# Altium schematic symbol library Powerswitch.SchLib: 30 symbols
Pins are listed as number, name and electrical type; pins without a type are passive.

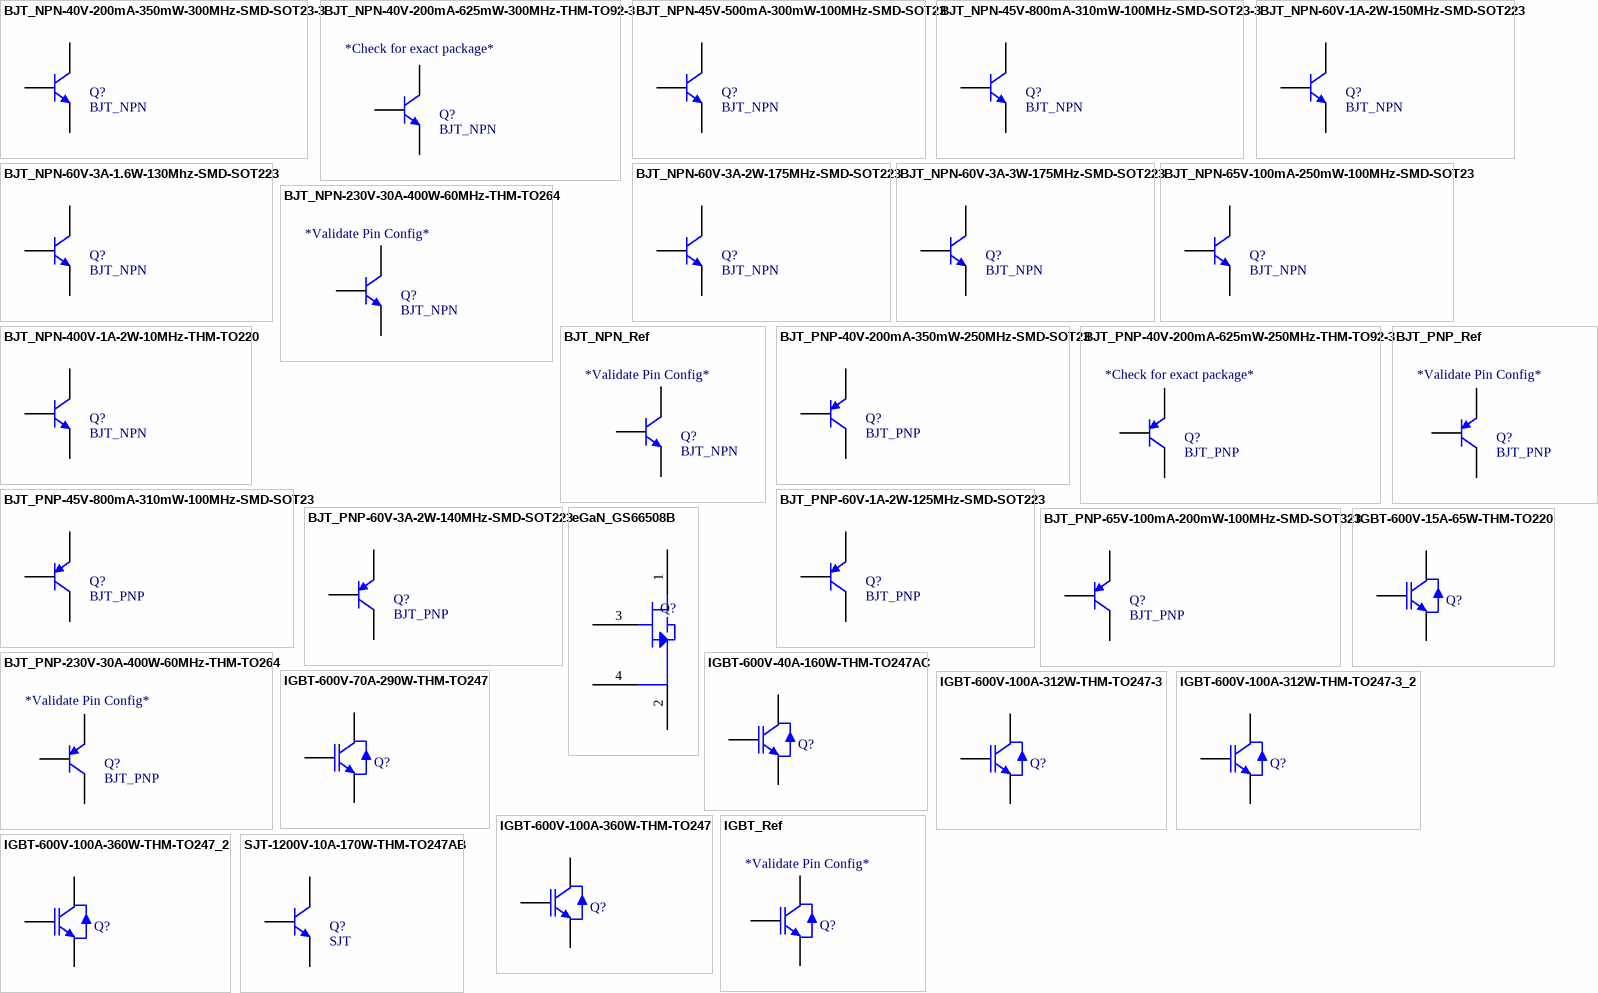
[diagram p0: symbols BJT_NPN-40V-200mA-350mW-300MHz-SMD-SOT23-3 to SJT-1200V-10A-170W-THM-TO247AB]

## BJT_NPN-40V-200mA-350mW-300MHz-SMD-SOT23-3
designator Q?, comment BJT_NPN
TRANS NPN 40V 0.2A SOT-23; Manufacturer: ON Semiconductor; ManufacturerReference: MMBT3904; InventoryNumber: IC028; CurrentRating: 200mA; Power: 350mW; Frequency: 300MHz; Distributor: Digikey; DistributorReference: MMBT3904FSCT-ND; Package: SOT23-3/SC-59/TO236-3; VoltageRating: 40V; Type: NPN
footprint SOT23-3    ON Semiconductor (SOT23, 3-Leads, Body 2.92x2.55mm, Pitch 0.95mm, IPC High Density)
pins: 1 B, 2 E, 3 C

## BJT_NPN-40V-200mA-625mW-300MHz-THM-TO92-3
designator Q?, comment BJT_NPN
TRANS NPN 40V 0.2A TO-92; Manufacturer: ON Semiconductor; ManufacturerReference: 2N3904TFR; InventoryNumber: IC029; CurrentRating: 200mA; Power: 625mW; Frequency: 300MHz; Distributor: Digikey; DistributorReference: 2N3904D26ZCT-ND; Package: TO92-3/TO226-3; VoltageRating: 40V; Type: NPN
footprint TO92 TAPED BULK STRAIGHT LEAD
footprint TO92 TAPED BENT LEAD
pins: 1 E, 2 B, 3 C
text: *Check for exact package*

## BJT_NPN-45V-500mA-300mW-100MHz-SMD-SOT23
designator Q?, comment BJT_NPN
TRANS NPN 45V 0.5A SOT23; Manufacturer: ON Semiconductor; ManufacturerReference: BC817-25LT1G; InventoryNumber: IC030; CurrentRating: 500mA; Power: 300mW; Frequency: 100MHz; Distributor: Digikey; DistributorReference: BC817-25LT1GOSCT-ND; Package: SOT23-3/TO236-3/SC59; VoltageRating: 45V; Type: NPN
footprint SOT23-3    ON Semiconductor (SOT23, 3-Leads, Body 2.92x2.55mm, Pitch 0.95mm, IPC High Density)
pins: 1 B, 2 E, 3 C

## BJT_NPN-45V-800mA-310mW-100MHz-SMD-SOT23-3
designator Q?, comment BJT_NPN
TRANS NPN 45V 0.8A SOT-23; Manufacturer: ON Semiconductor; ManufacturerReference: BC81740MTF; InventoryNumber: IC033; CurrentRating: 800mA; Power: 310mW; Frequency: 100MHz; Distributor: Digikey; DistributorReference: BC81740MTFCT-ND; Package: SOT23-3/TO236-3/SC59; VoltageRating: 45V; Type: NPN
footprint SOT23-3    ON Semiconductor (SOT23, 3-Leads, Body 2.92x2.55mm, Pitch 0.95mm, IPC High Density)
pins: 1 B, 2 E, 3 C

## BJT_NPN-60V-1A-2W-150MHz-SMD-SOT223
designator Q?, comment BJT_NPN
BCP55TA; Manufacturer: Diodes Incorporated; InventoryNumber: IC031; VoltageRating: 60V; CurrentRating: 1A; Type: NPN; Power: 2W; Frequency: 150MHz; Distributor: Digikey; DistributorReference: BCP55CT-ND; ManufacturerReference: BCP55TA; Package: SOT223/TO261-4
footprint SOT223-4 (SOT223, 4-Leads, Body 6.50x7.00mm (avg), Pitch 2.30mm, IPC High Density)
pins: 1 B, 2 C, 3 E

## BJT_NPN-60V-3A-1.6W-130Mhz-SMD-SOT223
designator Q?, comment BJT_NPN
TRANS NPN 60V 3A SOT-223; Manufacturer: STMicroelectronics; ManufacturerReference: 2STN1360; InventoryNumber: IC032; Power: 1.6W; Frequency: 130MHz; Distributor: Digikey; DistributorReference: 497-5212-1-ND; Package: SOT223/TO261-4; VoltageRating: 60V; CurrentRating: 3A; Type: NPN
footprint SOT223-4 (SOT223, 4-Leads, Body 6.50x7.00mm (avg), Pitch 2.30mm, IPC High Density)
pins: 1 B, 2 C, 3 E

## BJT_NPN-60V-3A-2W-175MHz-SMD-SOT223
designator Q?, comment BJT_NPN
TRANS NPN 60V 3A SOT-223; Manufacturer: Diodes Incorporated; ManufacturerReference: FZT651TA; InventoryNumber: IC132; Power: 2W; Frequency: 175MHz; Distributor: Digikey; DistributorReference: FZT651CT-ND; Package: SOT223/TO261-4; VoltageRating: 60V; CurrentRating: 3A; Type: NPN
footprint SOT223-4 (SOT223, 4-Leads, Body 6.50x7.00mm (avg), Pitch 2.30mm, IPC High Density)
pins: 1 B, 2 C, 3 E

## BJT_NPN-60V-3A-3W-175MHz-SMD-SOT223
designator Q?, comment BJT_NPN
TRANS NPN 60V 3A SOT-223; Manufacturer: Diodes Incorporated; ManufacturerReference: FZT651QTA; InventoryNumber: IC139; Power: 3W; Frequency: 175MHz; Distributor: Digikey; DistributorReference: FZT651QTADICT-ND; Package: SOT223/TO261-4; VoltageRating: 60V; CurrentRating: 3A; Type: NPN
footprint SOT223-4 (SOT223, 4-Leads, Body 6.50x7.00mm (avg), Pitch 2.30mm, IPC High Density)
pins: 1 B, 2 C, 3 E

## BJT_NPN-65V-100mA-250mW-100MHz-SMD-SOT23
designator Q?, comment BJT_NPN
TRANS NPN 65V 0.1A SOT23; Manufacturer: Nexperia USA Inc.; ManufacturerReference: BC846A,215; InventoryNumber: IC034; CurrentRating: 100mA; Power: 250mW; Frequency: 100MHz; Distributor: Digikey; DistributorReference: 1727-4239-1-ND; Package: SOT23/TO236-3; VoltageRating: 65V; Type: NPN
footprint SOT23-3    ON Semiconductor (SOT23, 3-Leads, Body 2.92x2.55mm, Pitch 0.95mm, IPC High Density)
pins: 1 B, 2 E, 3 C

## BJT_NPN-230V-30A-400W-60MHz-THM-TO264
designator Q?, comment BJT_NPN
TRANS NPN 230V 30A TO264; Manufacturer: Semelab / TT Electronics; ManufacturerReference: MAG6332W; InventoryNumber: IC228; Power: 400W; Frequency: 60MHz; Distributor: *; DistributorReference: *; Package: TO264; VoltageRating: 230V; CurrentRating: 30A; Type: NPN
pins: 1 E, 2 B, 3 C
text: *Validate Pin Config*

## BJT_NPN-400V-1A-2W-10MHz-THM-TO220
designator Q?, comment BJT_NPN
TRANS NPN 400V 1A TO220AB; Manufacturer: ON Semiconductor; ManufacturerReference: TIP50G; InventoryNumber: IC027; Power: 2W; Frequency: 10MHz; Distributor: Digikey; DistributorReference: TIP50GOS-ND; Package: TO220-3/AB; VoltageRating: 400V; CurrentRating: 1A; Type: NPN
footprint TO-220-3/TO-220AB/TO-220-3 Full Pack
pins: 1 B, 2 C, 3 E

## BJT_NPN_Ref
designator Q?, comment BJT_NPN
NPN General Purpose Amplifier; Distributor: Digikey; DistributorReference: *; Manufacturer: *; ManufacturerReference: *; Package: *; InventoryNumber: *; VoltageRating: *; CurrentRating: *; Type: NPN; Power: *; Frequency: *
pins: 1 E, 2 B, 3 C
text: *Validate Pin Config*

## BJT_PNP-40V-200mA-350mW-250MHz-SMD-SOT23
designator Q?, comment BJT_PNP
TRANS PNP 40V 0.2A SOT-23; Manufacturer: ON Semiconductor; ManufacturerReference: MMBT3906; InventoryNumber: IC036; CurrentRating: 200mA; Power: 350mW; Frequency: 250MHz; Distributor: Digikey; DistributorReference: MMBT3906FSCT-ND; Package: SOT23/TO236-3; VoltageRating: 40V; Type: PNP
footprint SOT23-3    ON Semiconductor (SOT23, 3-Leads, Body 2.92x2.55mm, Pitch 0.95mm, IPC High Density)
pins: 1 B, 2 E, 3 C

## BJT_PNP-40V-200mA-625mW-250MHz-THM-TO92-3
designator Q?, comment BJT_PNP
TRANS PNP 40V 0.2A TO-92; Manufacturer: ON Semiconductor; ManufacturerReference: 2N3906TFR; InventoryNumber: IC037; CurrentRating: 200mA; Power: 625mW; Frequency: 250MHz; Distributor: Digikey; DistributorReference: 2N3906D26ZCT-ND; Package: TO92-3/TO26-3; VoltageRating: 40V; Type: PNP
footprint TO92 TAPED BENT LEAD
footprint TO92 TAPED BULK STRAIGHT LEAD
pins: 1 E, 2 B, 3 C
text: *Check for exact package*

## BJT_PNP-45V-800mA-310mW-100MHz-SMD-SOT23
designator Q?, comment BJT_PNP
TRANS PNP 45V 0.8A SOT23; Manufacturer: ON Semiconductor; ManufacturerReference: BC80725MTF; InventoryNumber: IC035; CurrentRating: 800mA; Power: 310mW; Frequency: 100MHz; Distributor: Digikey; DistributorReference: BC80725MTFTR-ND; Package: SOT23/TO236-3; VoltageRating: 45V; Type: PNP
footprint SOT23-3    ON Semiconductor (SOT23, 3-Leads, Body 2.92x2.55mm, Pitch 0.95mm, IPC High Density)
pins: 1 B, 2 E, 3 C

## BJT_PNP-60V-1A-2W-125MHz-SMD-SOT223
designator Q?, comment BJT_PNP
TRANS PNP 60V 1A SOT223-4; Manufacturer: Diodes Incorporated; ManufacturerReference: BCP52TA; InventoryNumber: IC039; Power: 2W; Frequency: 125MHz; Distributor: Digikey; DistributorReference: BCP52CT-ND; Package: SOT223/TO261-4; CurrentRating: 1A; VoltageRating: 60V; Type: PNP
footprint SOT223-4 (SOT223, 4-Leads, Body 6.50x7.00mm (avg), Pitch 2.30mm, IPC High Density)
pins: 1 B, 2 C, 3 E

## BJT_PNP-60V-3A-2W-140MHz-SMD-SOT223
designator Q?, comment BJT_PNP
TRANS PNP 60V 3A SOT-223; Manufacturer: Diodes Incorporated; ManufacturerReference: FZT751TA; InventoryNumber: IC226; Power: 2W; Frequency: 140MHz; Distributor: Digikey; DistributorReference: FZT751CT-ND; Package: SOT223/TO261-4; CurrentRating: 3A; VoltageRating: 60V; Type: PNP
footprint SOT223-4 (SOT223, 4-Leads, Body 6.50x7.00mm (avg), Pitch 2.30mm, IPC High Density)
pins: 1 B, 2 C, 3 E

## BJT_PNP-65V-100mA-200mW-100MHz-SMD-SOT323
designator Q?, comment BJT_PNP
TRANS PNP 65V 0.1A SOT323; Manufacturer: Nexperia USA Inc.; ManufacturerReference: BC856BW,115; InventoryNumber: IC038; CurrentRating: 100mA; Power: 200mW; Frequency: 100MHz; Distributor: Digikey; DistributorReference: 1727-4863-1-ND; Package: SOT323/SC70; VoltageRating: 65V; Type: PNP
footprint SOT323-3/SC70 Nexperia USA Inc. (SOT23, 3-Leads, Body 2.00x2.10mm, Pitch 0.65mm, IPC High Density)
pins: 1 B, 2 E, 3 C

## BJT_PNP-230V-30A-400W-60MHz-THM-TO264
designator Q?, comment BJT_PNP
TRANS PNP 230V 30A 400W TO264; Manufacturer: SEMELAB; ManufacturerReference: MAG9412W; InventoryNumber: IC227; Frequency: 60MHz; Distributor: *; DistributorReference: *; Package: TO264; CurrentRating: 30A; VoltageRating: 230V; Type: PNP; Power: 400W
pins: 1 E, 2 B, 3 C
text: *Validate Pin Config*

## BJT_PNP_Ref
designator Q?, comment BJT_PNP
PNP General Purpose Amplifier; Distributor: Digikey; DistributorReference: *; Manufacturer: *; ManufacturerReference: *; InventoryNumber: *; Package: *; CurrentRating: *; VoltageRating: *; Type: PNP; Power: *; Frequency: *
pins: 1 E, 2 B, 3 C
text: *Validate Pin Config*

## eGaN_GS66508B
designator Q?  (value not drawn)
Bottom-side cooled (650V, 30A) E-mode GaN transistor; ManufacturerName: GaN Systems; ManufacturerReference: GS66508B-E01-MR; DistributorName: Mouser - Canada; DistributorReference: 499-GS66508B-E01-MR; PackageReference: *
footprint GS66508B_03R_02HH (Bottom-side cooled (650 V, 30A) E-mode GaN transistor)
pins: 1 D, 2 S, 3 G, 4 SS

## IGBT-600V-15A-65W-THM-TO220
designator Q?, comment IGBT  (value not drawn)
IGBT, 600V Voltage Rating, 15A Current Rating, 65W Power Rating, TO220 Package; Manufacturer: STMicroelectronics; ManufacturerReference: STGP8NC60KD; InventoryNumber: IC041; Distributor: Digikey; DistributorReference: 497-7481-5-ND; Package: TO220-3/AB; CurrrentRating: 15A; VoltageRating: 600V; Power: 65W
footprint TO-220-3/TO-220AB/TO-220-3 Full Pack
pins: 1 G, 2 C, 3 E

## IGBT-600V-40A-160W-THM-TO247AC
designator Q?, comment IGBT  (value not drawn)
IGBT, 600V Voltage Rating, 40A Current Rating, 160W Power Rating, TO247AC Package; Manufacturer: Infineon Technologies; ManufacturerReference: IRG4PC40UD-EPBF; InventoryNumber: IC044; Distributor: Digikey; DistributorReference: IRG4PC40UD-EPBF-ND; Package: TO247-3/AC; CurrrentRating: 40A; VoltageRating: 600V; Power: 160W
footprint TO-247-3/PLUS247
pins: 1 G, 2 C, 3 E

## IGBT-600V-70A-290W-THM-TO247
designator Q?, comment IGBT  (value not drawn)
IGBT, 600V Voltage Rating, 70A Current Rating, 290W Power Rating, TO247-3 Package; Manufacturer: ON Semiconductor; ManufacturerReference: HGTG20N60A4; InventoryNumber: IC043; Distributor: Digikey; DistributorReference: HGTG20N60A4-ND; Package: TO247-3; CurrrentRating: 70A; VoltageRating: 600V; Power: 290W
footprint TO-247-3/PLUS247
pins: 1 G, 2 C, 3 E

## IGBT-600V-100A-312W-THM-TO247-3
designator Q?, comment IGBT  (value not drawn)
IGBT, 600V Voltage Rating, 100A Current Rating, 312W Power Rating, TO247-3 Package; Manufacturer: Alpha & Omega Semiconductor Inc.; ManufacturerReference: AOK50B60D1; InventoryNumber: IC042; Distributor: Digikey; DistributorReference: 785-1624-5-ND; Package: TO247-3; CurrrentRating: 100A; VoltageRating: 600V; Power: 312W
footprint TO-247-3/PLUS247
pins: 1 G, 2 C, 3 E

## IGBT-600V-100A-312W-THM-TO247-3_2
designator Q?, comment IGBT  (value not drawn)
IGBT, 600V Voltage Rating, 100A Current Rating, 312W Power Rating, TO247-3 Package; Manufacturer: Alpha & Omega Semiconductor Inc.; ManufacturerReference: AOK50B60D1; InventoryNumber: IC045; Distributor: Digikey; DistributorReference: 785-1624-5-ND; Package: TO247-3; CurrrentRating: 100A; VoltageRating: 600V; Power: 312W
footprint TO-247-3/PLUS247
pins: 1 G, 2 C, 3 E

## IGBT-600V-100A-360W-THM-TO247
designator Q?, comment IGBT  (value not drawn)
IGBT, 600V Voltage Rating, 100A Current Rating, 360W Power Rating, TO247-3 Package; Manufacturer: STMicroelectronics; ManufacturerReference: STGW50H60DF; InventoryNumber: IC046; Distributor: Digikey; DistributorReference: 497-12423-ND; Package: TO247-3; CurrrentRating: 100A; VoltageRating: 600V; Power: 360W
footprint TO-247-3/PLUS247
pins: 1 G, 2 C, 3 E

## IGBT-600V-100A-360W-THM-TO247_2
designator Q?, comment IGBT  (value not drawn)
IGBT, 600V Voltage Rating, 100A Current Rating, 360W Power Rating, TO247-3 Package; Manufacturer: STMicroelectronics; ManufacturerReference: STGW50H60DF; InventoryNumber: IC047; Distributor: Digikey; DistributorReference: 497-12423-ND; Package: TO247-3; CurrrentRating: 100A; VoltageRating: 600V; Power: 360W
footprint TO-247-3/PLUS247
pins: 1 G, 2 C, 3 E

## IGBT_Ref
designator Q?  (value not drawn)
IGBT, Voltage Rating, Current Rating, Power Rating, Package; Distributor: Digikey; DistributorReference: *; Manufacturer: *; ManufacturerReference: *; InventoryNumber: *; Package: *; CurrrentRating: *; VoltageRating: *; Power: *
pins: 1 G, 2 C, 3 E
text: *Validate Pin Config*

## SJT-1200V-10A-170W-THM-TO247AB
designator Q?, comment SJT
TRANS SJT 1.2KV 10A 170W TO247AB; Manufacturer: GeneSiC Semiconductor; ManufacturerReference: GA10JT12-247; InventoryNumber: IC040; VoltageRating: 1200V; Distributor: Digikey; DistributorReference: 1242-1187-ND; Package: TO247-3/AB; CurrentRating: 10A; Type: SJT; Power: 170W
footprint TO-247-3/PLUS247
pins: 1 G, 2 C, 3 E